# Altium footprint library EA DOGL128W-6.PcbLib: 1 footprints
Each footprint in its own frame and in the unit in brackets; x right, y up, seen from the top. Pads: shape width x height; smd on the part's side, far side on the other; paste and mask are expansions set on the pad; w line width, h text height; cw(c..) or ccw(c..) is an arc to the next point about the centre after c.
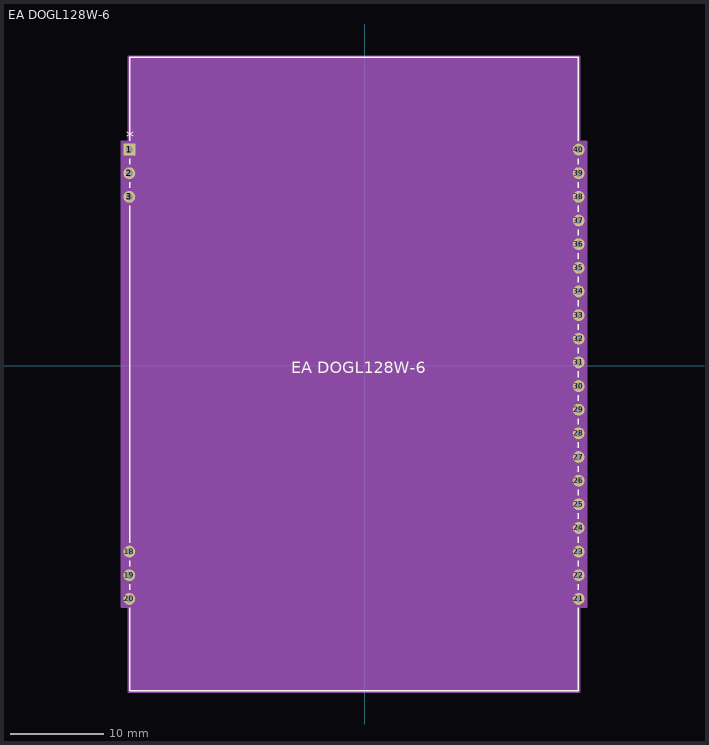
[diagram p0: the footprint, top view; thin cyan lines are the x and y axes]

## EA DOGL128W-6 [mil]
pads (26):
  rect 50x50 / inner round 60 / far side rect 50x50 hole 30 paste-99999 mask+0: 1(-995,915)
  round 50 / inner round 60 / far side round 50 hole 30 paste-99999 mask+0: 2(-995,815) 3(-995,715) 18(-995,-785) 19(-995,-885) 20(-995,-985) 21(905,-985) 22(905,-885) 23(905,-785) 24(905,-685) 25(905,-585) 26(905,-485) 27(905,-385) 28(905,-285) 29(905,-185) 30(905,-85) 31(905,15) 32(905,115) 33(905,215) 34(905,315) 35(905,415) 36(905,515) 37(905,615) 38(905,715) 39(905,815) 40(905,915)
Top Overlay:
  lines w6: -994,-1023.09 -994,-1374.5 904,-1374.5 904,-1023.09 ; -994,-946.91 -994,-923.09 ; -994,-846.91 -994,-823.09 ; -994,-746.91 -994,676.91 ; -994,753.09 -994,776.91 ; -994,853.09 -994,876.9 ; -994,953.1 -994,1304.5 904,1304.5 904,953.09 ; 904,-946.91 904,-923.09 ; 904,-846.91 904,-823.09 ; 904,-746.91 904,-723.09 ; 904,-646.91 904,-623.09 ; 904,-546.91 904,-523.09 ; 904,-446.91 904,-423.09 ; 904,-346.91 904,-323.09 ; 904,-246.91 904,-223.09 ; 904,-146.91 904,-123.09 ; 904,-46.91 904,-23.09 ; 904,53.09 904,76.91 ; 904,153.09 904,176.91 ; 904,253.09 904,276.91 ; 904,353.09 904,376.91 ; 904,453.09 904,476.91 ; 904,553.09 904,576.91 ; 904,653.09 904,676.91 ; 904,753.09 904,776.91 ; 904,853.09 904,876.91
  text "EA DOGL128W-6" at -310,-30 h50
  text "*" at -1007.5,945 h50
Mechanical 13:
  lines w0: -57,1299.5 ccw(c-45,1299.5) -33,1299.5
  lines w1: -1010,-1000 -989,-1000 -989,-970 -1010,-970 -1010,-1000 ; -1010,-900 -989,-900 -989,-870 -1010,-870 -1010,-900 ; -1010,-800 -989,-800 -989,-770 -1010,-770 -1010,-800 ; -1010,700 -989,700 -989,730 -1010,730 -1010,700 ; -1010,800 -989,800 -989,830 -1010,830 -1010,800 ; -1010,900 -989,900 -989,930 -1010,930 -1010,900 ; -989,-1369.5 -989,1299.5 899,1299.5 899,-1369.5 -989,-1369.5 ; 899,-1000 920,-1000 920,-970 899,-970 899,-1000 ; 899,-900 920,-900 920,-870 899,-870 899,-900 ; 899,-800 920,-800 920,-770 899,-770 899,-800 ; 899,-700 920,-700 920,-670 899,-670 899,-700 ; 899,-600 920,-600 920,-570 899,-570 899,-600 ; 899,-500 920,-500 920,-470 899,-470 899,-500 ; 899,-400 920,-400 920,-370 899,-370 899,-400 ; 899,-300 920,-300 920,-270 899,-270 899,-300 ; 899,-200 920,-200 920,-170 899,-170 899,-200 ; 899,-100 920,-100 920,-70 899,-70 899,-100 ; 899,0 920,0 920,30 899,30 899,0 ; 899,100 920,100 920,130 899,130 899,100 ; 899,200 920,200 920,230 899,230 899,200 ; 899,300 920,300 920,330 899,330 899,300 ; 899,400 920,400 920,430 899,430 899,400 ; 899,500 920,500 920,530 899,530 899,500 ; 899,600 920,600 920,630 899,630 899,600 ; 899,700 920,700 920,730 899,730 899,700 ; 899,800 920,800 920,830 899,830 899,800 ; 899,900 920,900 920,930 899,930 899,900
  text "RefDes2" at -132.5,-60 h50
  text "*" at -991.5,890 h50
Mechanical 15:
  region: 909,-1020 940,-1020 940,950 909,950 909,1309.5 -999,1309.5 -999,950 -1030,950 -1030,-1020 -999,-1020 -999,-1379.5 909,-1379.5
  lines w6: -1030,-1020 -999,-1020 -999,-1379.5 909,-1379.5 909,-1020 940,-1020 940,950 909,950 909,1309.5 -999,1309.5 -999,950 -1030,950 -1030,-1020
3D body "EADOGL128-6_DPV.step": height 115.12, standoff -100, extent -1000,-1369.49 920,1299.49